# EAGLE library part LTC1163CN8 (library hmcfabstudio)
Digikey: LTC1163CS8#PBF-ND Triple High-Side N-Channel Mosfet Driver
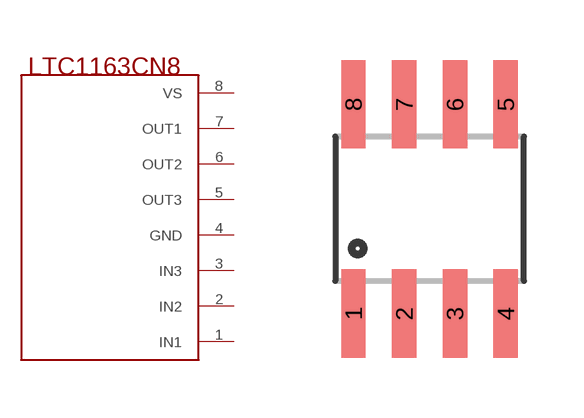
[diagram p12: symbol with the pads of SO08; footprint SO08]

Designator prefix -

## LTC1163CN8  [SO08]
1  IN1
2  IN2
3  IN3
4  GND
5  OUT3
6  OUT2
7  OUT1
8  VS

## Footprint SO08 (pad centres in mm)
Small Outline Package Fits JEDEC packages (narrow SOIC-8)
smd 0.61 x 2.21: 1 -1.905,-2.616; 2 -0.635,-2.616; 3 0.635,-2.616; 4 1.905,-2.616; 5 1.905,2.616; 6 0.635,2.616; 7 -0.635,2.616; 8 -1.905,2.616